# Altium schematic symbol library Schlib1.SchLib: 1 symbol
Pins are listed as number, name and electrical type; pins without a type are passive.

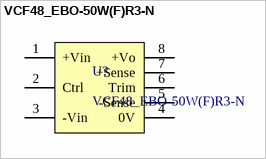
[diagram p0: symbol VCF48_EBO-50W(F)R3-N]

## VCF48_EBO-50W(F)R3-N
designator U?
pins: 1 +Vin, 2 Ctrl, 3 -Vin, 4 0V, 5 -Sense, 6 Trim, 7 +Sense, 8 +Vo